# Altium schematic symbol library Trans Cupl.Schlib: 1 symbol
Pins are listed as number, name and electrical type; pins without a type are passive.

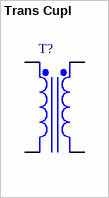
[diagram p0: symbol Trans Cupl]

## Trans Cupl
designator T?
Transformer (Coupled Inductor Model)
pins: 1 Pri+, 2 Pri-, 3 Sec+, 4 Sec-